# EAGLE library part IR2104 (library Bauteile)
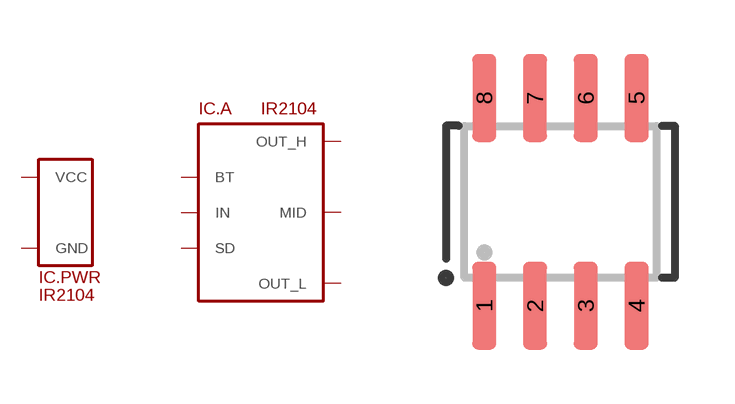
[diagram p13: symbol with the pads of SO8; footprint SO8]

Designator prefix IC; gates .PWR=SUPPLY_VCC/GND .A=IR2104

## IR2104  [SO8]
1  .PWR:VCC
2  .A:IN
3  .A:SD
4  .PWR:GND
5  .A:OUT_L
6  .A:MID
7  .A:OUT_H
8  .A:BT

## Footprint SO8 (pad centres in mm)
smd 0.6 x 2.2: 1 -1.905,-2.6; 2 -0.635,-2.6; 3 0.635,-2.6; 4 1.905,-2.6; 5 1.905,2.6; 6 0.635,2.6; 7 -0.635,2.6; 8 -1.905,2.6